# EAGLE library part 690367181672 (library Board_to_Board_Connectors_rev15d)
WR-MM Female Connector without Latch and without Polarization, 16 Pins=>Code : Con_BTB_MM_Female_THT_St_690367181672 <http://katalog.we-online.de/media/thumbs2/eican/thb_Con_BTB_MM_Female_THT_St_69036718xx72_pf2.jpg> Details see: http://katalog.we-online.de/en/em/6903_6718_xx_72 Created 2014-06-04, Karrer Zheng 2014 (C) Würth Elektronik
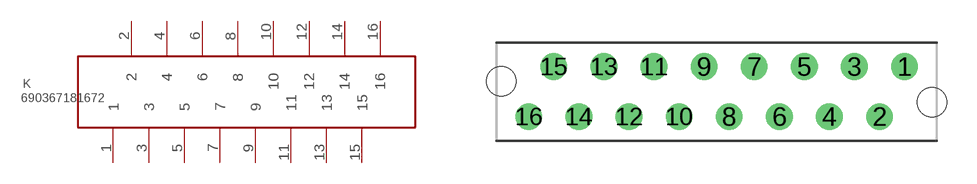
[diagram p348: symbol with the pads of 690367181672; footprint 690367181672]

Designator prefix K

## 690367181672  [690367181672]
1  1  pas
2  2  pas
3  3  pas
4  4  pas
5  5  pas
6  6  pas
7  7  pas
8  8  pas
9  9  pas
10  10  pas
11  11  pas
12  12  pas
13  13  pas
14  14  pas
15  15  pas
16  16  pas

## Footprint 690367181672 (pad centres in mm)
WR-MM Female Connector without Latch and without Polarization, 16 Pins
drill 0.85: 1 9.525,1.27; 2 8.255,-1.27; 3 6.985,1.27; 4 5.715,-1.27; 5 4.445,1.27; 6 3.175,-1.27; 7 1.905,1.27; 8 0.635,-1.27; 9 -0.635,1.27; 10 -1.905,-1.27; 11 -3.175,1.27; 12 -4.445,-1.27; 13 -5.715,1.27; 14 -6.985,-1.27; 15 -8.255,1.27; 16 -9.525,-1.27
hole 1.5 at 10.925,-0.53
hole 1.5 at -10.925,0.53